# Altium integrated library AD Analog Multiplier Divider.IntLib: 63 symbols (part 2 of 2)
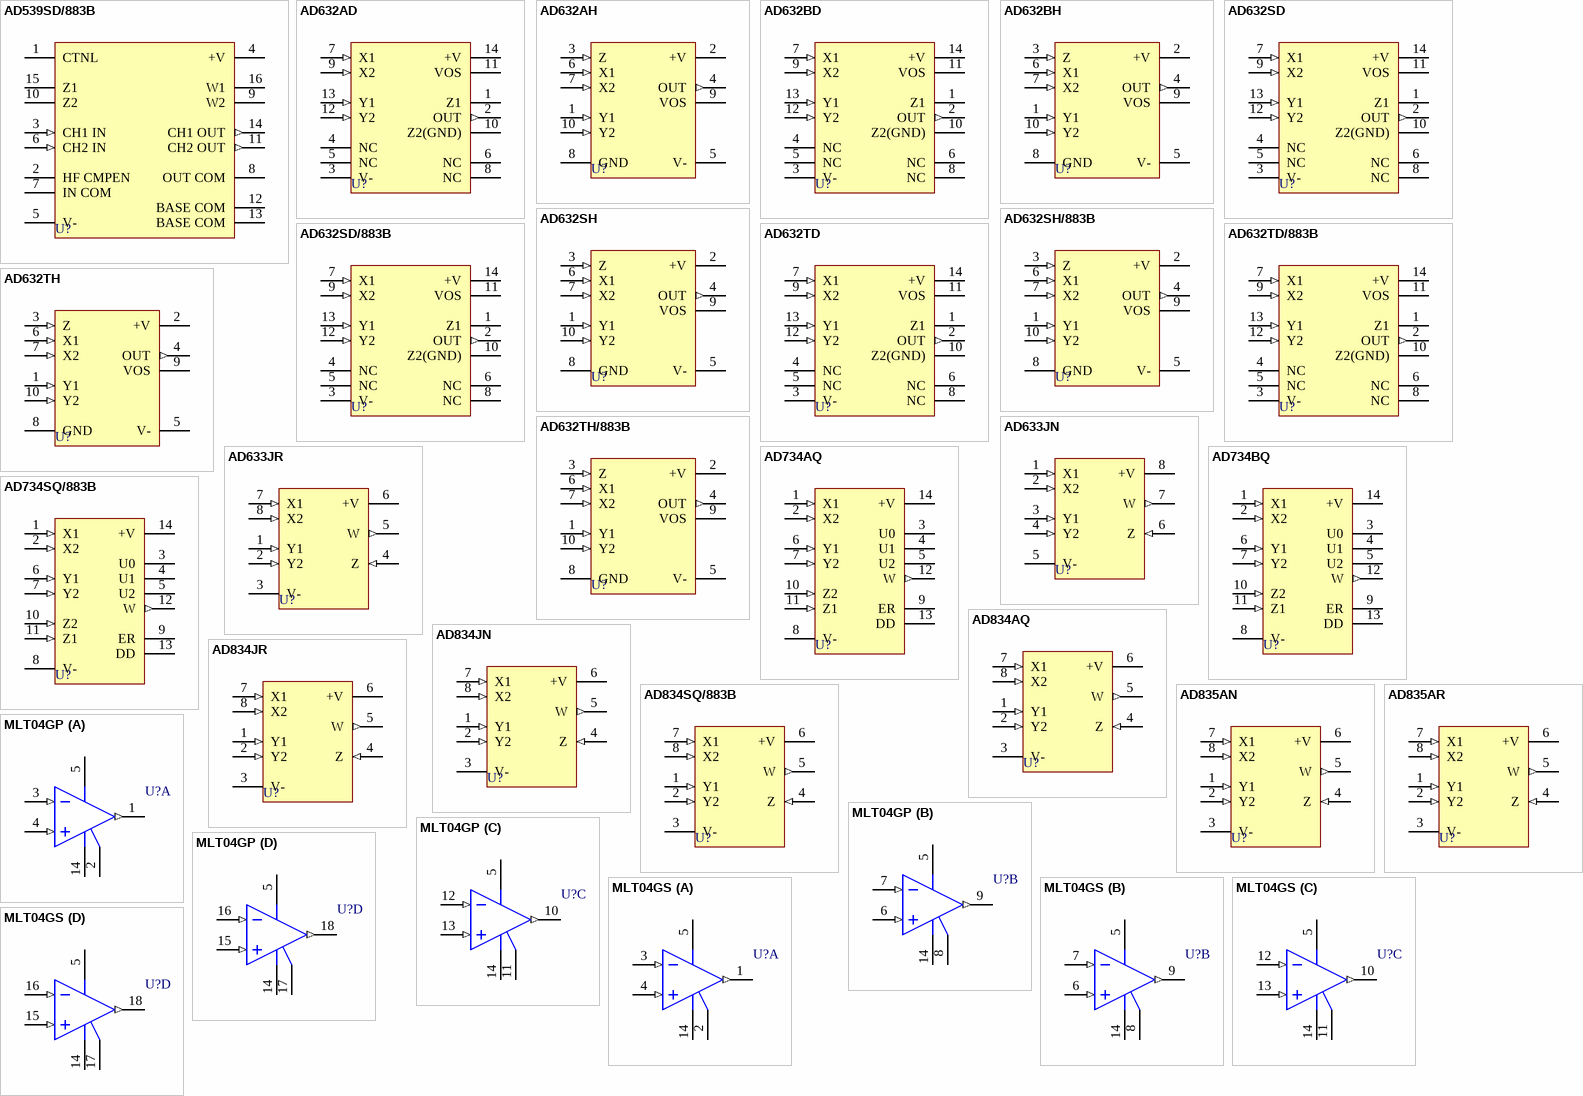
[diagram p2: symbols AD539SD/883B to MLT04GS]

## AD834JN
designator U?
500MHz Four-Quadrant Multiplier; Published: 8-Jun-2000; LatestRevisionDate: 04-Mar-2005; LatestRevisionNote: Stylized 3D Model Added.; DatasheetVersion: REV.B 1998; PackageReference: N-8_A; Publisher: Altium Limited; PackageDescription: DIP; 8 Leads; Row Spacing 7.62 mm; Pitch 2.54 mm; Code_JEDEC: MO-001-AN; ComponentLink1Description: Manufacturer Link; ComponentLink1URL: http://www.analog.com/en/prod/0%2C2877%2CAD834%2C00.html; ComponentLink2Description: Datasheet; ComponentLink2URL: http://www.analog.com/UploadedFiles/Data_Sheets/99678087AD834_d.pdf
footprint N-8_A (DIP; 8 Leads; Row Spacing 7.62 mm; Pitch 2.54 mm)
3D model N-8A (DIP; 8 Leads; Row Spacing 7.62 mm; Pitch 2.54 mm)
pins: 1 Y1 (in), 2 Y2 (in), 3 V- (power), 4 Z (in), 5 W (out), 6 +V (power), 7 X1 (in), 8 X2 (in)

## AD834JR
designator U?
500MHz Four-Quadrant Multiplier; Published: 8-Jun-2000; LatestRevisionDate: 13-Apr-2006; LatestRevisionNote: IPC-7351 Footprint Added.; DatasheetVersion: REV.B 1998; PackageVersion: 2005; PackageReference: R-8; Publisher: Altium Limited; PackageDescription: 8-Pin Narrow Body Small Outline Integrated Circuit 1.27 mm Pitch; Code_JEDEC: MS-012-AA; Code_IPC: SOIC127P600-8; ComponentLink1Description: Manufacturer Link; ComponentLink1URL: http://www.analog.com/en/prod/0%2C2877%2CAD834%2C00.html; ComponentLink2Description: Datasheet; ComponentLink2URL: http://www.analog.com/UploadedFiles/Data_Sheets/99678087AD834_d.pdf
footprint R-8_N (SOIC, 8-Leads, Body 4.9x3.9mm, Pitch 1.27mm, IPC Medium Density)
footprint R-8_L (SOIC, 8-Leads, Body 4.9x3.9mm, Pitch 1.27mm, IPC High Density)
footprint R-8_M (SOIC, 8-Leads, Body 4.9x3.9mm, Pitch 1.27mm, IPC Low Density)
3D model R-8 (8-Pin Narrow Body Small Outline Integrated Circuit 1.27 mm Pitch)
pins: 1 Y1 (in), 2 Y2 (in), 3 V- (power), 4 Z (in), 5 W (out), 6 +V (power), 7 X1 (in), 8 X2 (in)

## AD834SQ/883B
designator U?
500MHz Four-Quadrant Multiplier; Published: 8-Jun-2000; LatestRevisionDate: 04-Mar-2005; LatestRevisionNote: Stylized 3D Model Added.; DatasheetVersion: REV.B 1998; PackageVersion: 1998; PackageReference: Q-8; Publisher: Altium Limited; PackageDescription: DIP; 8 Leads; Row Spacing 7.62 mm; Pitch 2.54 mm; ComponentLink1Description: Manufacturer Link; ComponentLink1URL: http://www.analog.com/en/prod/0%2C2877%2CAD834%2C00.html; ComponentLink2Description: Datasheet; ComponentLink2URL: http://www.analog.com/UploadedFiles/Data_Sheets/99678087AD834_d.pdf
footprint Q-8 (DIP; 8 Leads; Row Spacing 7.62 mm; Pitch 2.54 mm)
3D model Q-8 (DIP; 8 Leads; Row Spacing 7.62 mm; Pitch 2.54 mm)
pins: 1 Y1 (in), 2 Y2 (in), 3 V- (power), 4 Z (in), 5 W (out), 6 +V (power), 7 X1 (in), 8 X2 (in)

## AD835AN
designator U?
250MHz, Voltage Output 4-Quadrant Multiplier; Published: 8-Jun-2000; LatestRevisionDate: 04-Mar-2005; LatestRevisionNote: Stylized 3D Model Added.; DatasheetVersion: REV.A 1998; PackageReference: N-8_A; Publisher: Altium Limited; PackageDescription: DIP; 8 Leads; Row Spacing 7.62 mm; Pitch 2.54 mm; Code_JEDEC: MO-001-AN; ComponentLink1Description: Manufacturer Link; ComponentLink1URL: http://www.analog.com/en/prod/0%2C2877%2CAD835%2C00.html; ComponentLink2Description: Datasheet; ComponentLink2URL: http://www.analog.com/UploadedFiles/Data_Sheets/3399848488427AD835_b.pdf
footprint N-8_A (DIP; 8 Leads; Row Spacing 7.62 mm; Pitch 2.54 mm)
3D model N-8A (DIP; 8 Leads; Row Spacing 7.62 mm; Pitch 2.54 mm)
pins: 1 Y1 (in), 2 Y2 (in), 3 V- (power), 4 Z (in), 5 W (out), 6 +V (power), 7 X1 (in), 8 X2 (in)

## AD835AR
designator U?
250MHz, Voltage Output 4-Quadrant Multiplier; Published: 8-Jun-2000; LatestRevisionDate: 13-Apr-2006; LatestRevisionNote: IPC-7351 Footprint Added.; DatasheetVersion: REV.A 1998; PackageVersion: 2005; PackageReference: R-8; Publisher: Altium Limited; PackageDescription: 8-Pin Narrow Body Small Outline Integrated Circuit 1.27 mm Pitch; Code_JEDEC: MS-012-AA; Code_IPC: SOIC127P600-8; ComponentLink1Description: Manufacturer Link; ComponentLink1URL: http://www.analog.com/en/prod/0%2C2877%2CAD835%2C00.html; ComponentLink2Description: Datasheet; ComponentLink2URL: http://www.analog.com/UploadedFiles/Data_Sheets/3399848488427AD835_b.pdf
footprint R-8_N (SOIC, 8-Leads, Body 4.9x3.9mm, Pitch 1.27mm, IPC Medium Density)
footprint R-8_L (SOIC, 8-Leads, Body 4.9x3.9mm, Pitch 1.27mm, IPC High Density)
footprint R-8_M (SOIC, 8-Leads, Body 4.9x3.9mm, Pitch 1.27mm, IPC Low Density)
3D model R-8 (8-Pin Narrow Body Small Outline Integrated Circuit 1.27 mm Pitch)
pins: 1 Y1 (in), 2 Y2 (in), 3 V- (power), 4 Z (in), 5 W (out), 6 +V (power), 7 X1 (in), 8 X2 (in)

## MLT04GP
designator U?
Four-Channel, Four-Quadrant Analog Multiplier; Published: 8-Jun-2000; LatestRevisionDate: 04-Mar-2005; LatestRevisionNote: Stylized 3D Model Added.; DatasheetVersion: REV.B 1998; PackageReference: N-18; Publisher: Altium Limited; PackageDescription: DIP; 18 Leads; Row Spacing 7.62 mm; Pitch 2.54 mm; ComponentLink1Description: Manufacturer Link; ComponentLink1URL: http://www.analog.com/en/prod/0%2C2877%2CMLT04%2C00.html; ComponentLink2Description: Datasheet; ComponentLink2URL: http://www.analog.com/UploadedFiles/Data_Sheets/431190299mlt04.pdf
footprint N-18 (DIP; 18 Leads; Row Spacing 7.62 mm; Pitch 2.54 mm)
3D model D-18A (DIP; 18 Leads; Row Spacing 7.62 mm; Pitch 2.54 mm)
simulation model MLT04G (SUBCKT)
pins on every part: 5 +V (power), 14 V- (power)
part A pins: 1 W (out), 2 GND (power), 3 X (in), 4 Y (in)
part B pins: 6 Y (in), 7 X (in), 8 GND (power), 9 W (out)
part C pins: 10 W (out), 11 GND (power), 12 X (in), 13 Y (in)
part D pins: 15 Y (in), 16 X (in), 17 GND (power), 18 W (out)

## MLT04GS
designator U?
Four-Channel, Four-Quadrant Analog Multiplier; Published: 8-Jun-2000; LatestRevisionDate: 13-Apr-2006; LatestRevisionNote: IPC-7351 Footprint Added.; DatasheetVersion: REV.B 1998; PackageVersion: revB; PackageReference: SOL-18; Publisher: Altium Limited; PackageDescription: 18-Pin Small Outline Integrated Circuit 1.27 mm Pitch; Code_JEDEC: MS-013-AB; ComponentLink1Description: Manufacturer Link; ComponentLink1URL: http://www.analog.com/en/prod/0%2C2877%2CMLT04%2C00.html; ComponentLink2Description: Datasheet; ComponentLink2URL: http://www.analog.com/UploadedFiles/Data_Sheets/431190299mlt04.pdf
footprint SOL-18_N (SOIC, 18-Leads, Body 11.6x7.5mm, Pitch 1.27mm, IPC Medium Density)
footprint SOL-18_L (SOIC, 18-Leads, Body 11.6x7.5mm, Pitch 1.27mm, IPC High Density)
footprint SOL-18_M (SOIC, 18-Leads, Body 11.6x7.5mm, Pitch 1.27mm, IPC Low Density)
3D model SOL-18 (18-Pin Small Outline Integrated Circuit 1.27 mm Pitch)
simulation model MLT04G (SUBCKT)
pins on every part: 5 +V (power), 14 V- (power)
part A pins: 1 W (out), 2 GND (power), 3 X (in), 4 Y (in)
part B pins: 6 Y (in), 7 X (in), 8 GND (power), 9 W (out)
part C pins: 10 W (out), 11 GND (power), 12 X (in), 13 Y (in)
part D pins: 15 Y (in), 16 X (in), 17 GND (power), 18 W (out)